# Altium footprint library SOT-89-3.PcbLib: 1 footprints
Each footprint in its own frame and in the unit in brackets; x right, y up, seen from the top. Pads: shape width x height; smd on the part's side, far side on the other; paste and mask are expansions set on the pad; w line width, h text height; cw(c..) or ccw(c..) is an arc to the next point about the centre after c.
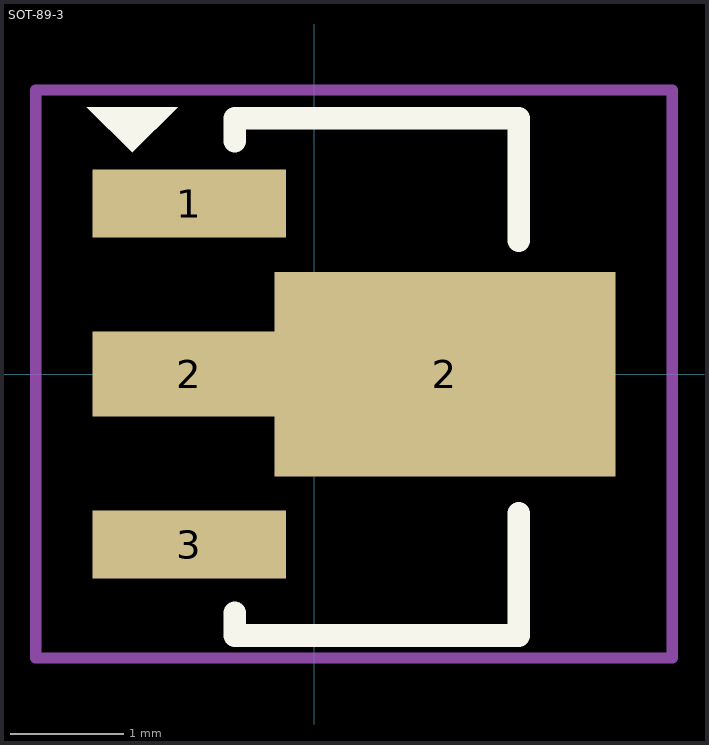
[diagram p0: the footprint, top view; thin cyan lines are the x and y axes]

## SOT-89-3 [mm]
pads (4):
  rect 1.7x0.6 smd: 1(-1.1,1.5) 3(-1.1,-1.5)
  rect 1.7x0.75 smd: 2(-1.1,0)
  rect 3x1.8 smd: 2(1.15,0)
Top Overlay:
  region: -2,2.35 -1.2,2.35 -1.6,1.95
  lines w0.2: -0.7,-2.1 -0.7,-2.3 1.8,-2.3 1.8,-1.225 ; -0.7,2.05 -0.7,2.25 1.8,2.25 1.8,1.175
Top Courtyard:
  lines w0.1: 2.046,-2.499 2.9,-2.499 ; -2.45,-2.499 -2.45,2.5 3.15,2.5 3.15,-2.499 -2.45,-2.499
3D body "BCX53.STEP": height 1.6, standoff 0, extent -1.7,-2.25 2.3,2.25